# EAGLE library part DMC2700_SOT-23-6 (library DMC2700)
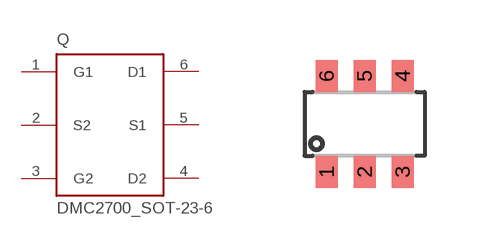
[diagram p0: symbol with the pads of SOT-23-6; footprint SOT-23-6]

Designator prefix Q

## DMC2700_SOT-23-6  [SOT-23-6]
1  G1
2  S2
3  G2
4  D2
5  S1
6  D1

## Footprint SOT-23-6 (pad centres in mm)
smd 0.55 x 0.8: 1 -0.95,-1.2; 2 0,-1.2; 3 0.95,-1.2; 4 0.95,1.2; 5 0,1.2; 6 -0.95,1.2